# Altium footprint library PcbLib1.PcbLib: 1 footprints
Each footprint in its own frame and in the unit in brackets; x right, y up, seen from the top. Pads: shape width x height; smd on the part's side, far side on the other; paste and mask are expansions set on the pad; w line width, h text height; cw(c..) or ccw(c..) is an arc to the next point about the centre after c.
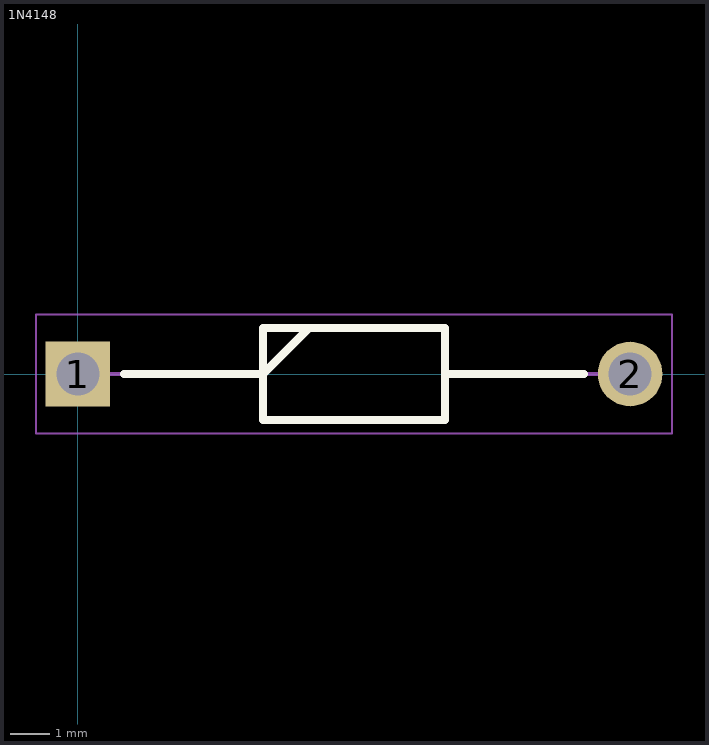
[diagram p0: the footprint, top view; thin cyan lines are the x and y axes]

## 1N4148 [mm]
pads (2):
  rect 1.65x1.65 hole 1.1: 1(0,0)
  round 1.65 hole 1.1: 2(14.1,0)
Top Overlay:
  lines w0.2: 1.175,0 4.725,0 5.9,1.175 ; 9.375,0 12.925,0 ; 4.725,-1.175 9.375,-1.175 9.375,1.175 4.725,1.175 4.725,-1.175
Mechanical 13:
  lines w0.1: 0,0 4.725,0 5.9,1.175 ; 9.375,0 14.1,0 ; 4.725,-1.175 9.375,-1.175 9.375,1.175 4.725,1.175 4.725,-1.175
Mechanical 15:
  lines w0.05: -1.075,-1.525 15.175,-1.525 15.175,1.525 -1.075,1.525 -1.075,-1.525
3D body "1N4007-E3_53.stp": height 2.69, standoff -2.7, extent -0.441,-1.347 14.495,1.347